# Altium footprint library MGJ2D121505SC.PcbLib: 1 footprints
Each footprint in its own frame and in the unit in brackets; x right, y up, seen from the top. Pads: shape width x height; smd on the part's side, far side on the other; paste and mask are expansions set on the pad; w line width, h text height; cw(c..) or ccw(c..) is an arc to the next point about the centre after c.
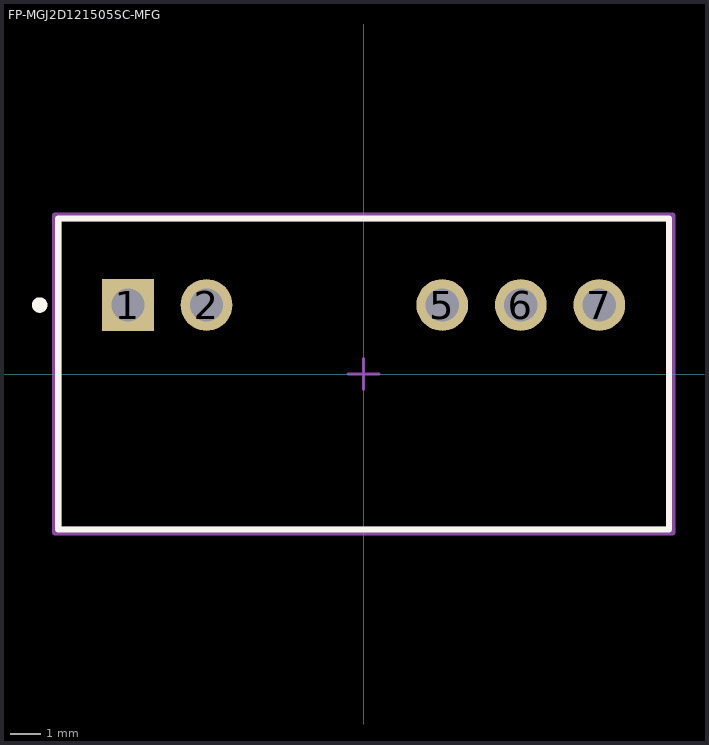
[diagram p0: the footprint, top view; thin cyan lines are the x and y axes]

## FP-MGJ2D121505SC-MFG [mm]
pads (5):
  rect 1.675x1.675 hole 1.075 paste-2539.97 mask+0: 1(-7.62,2.23)
  round 1.675 hole 1.075 paste-2539.97 mask+0: 2(-5.08,2.23) 5(2.54,2.23) 6(5.08,2.23) 7(7.62,2.23)
Top Overlay:
  circle w0.25: c-10.475,2.23 r0.125
  lines w0.2: -9.875,-5.025 -9.875,5.025 9.875,5.025 9.875,-5.025 -9.875,-5.025
Top Assembly:
  lines w0.2: -9.975,-5.125 -9.975,5.125 9.975,5.125 9.975,-5.125 -9.975,-5.125
  text ".Designator" at 0,0.188 h1
Top 3D Body:
  lines w0.2: -9.875,-5.025 -9.875,5.025 9.875,5.025 9.875,-5.025 -9.875,-5.025
Top Courtyard:
  lines w0.2: -9.975,-5.125 -9.975,5.125 9.975,5.125 9.975,-5.125 -9.975,-5.125
Top Component Center:
  lines w0.1: -0.5,0 0.5,0 ; 0,-0.5 0,0.5
3D body "IC_Murata_Power_Solutions_MGJ2D121505SC_eec.STEP": height 0.25, standoff 0, extent -9.975,-5.125 9.975,5.125